# Altium schematic symbol library Molex Micro-Fit.SchLib: 6 symbols
Pins are listed as number, name and electrical type; pins without a type are passive.

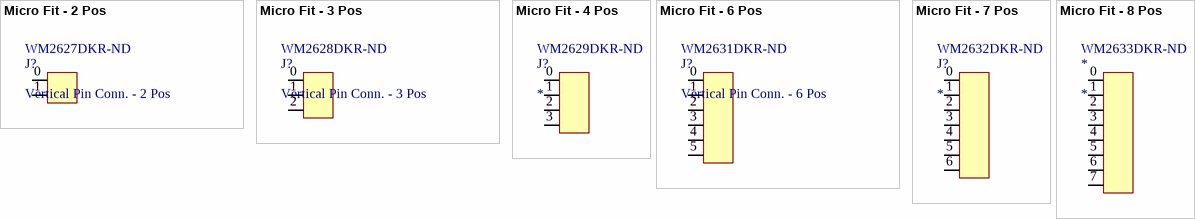
[diagram p0: symbols Micro Fit - 2 Pos to Micro Fit - 8 Pos]

## Micro Fit - 2 Pos
designator J?, comment Vertical Pin Conn. - 2 Pos  Supplier Part Number 1: WM2627DKR-ND
Supplier 1: Digi-Key
footprint 2 POS RECT CONNECTOR HOUSING
pins: 0, 1 2

## Micro Fit - 3 Pos
designator J?, comment Vertical Pin Conn. - 3 Pos  Supplier Part Number 1: WM2628DKR-ND
Supplier 1: Digi-Key
footprint 3 POS RECT CONNECTOR HOUSING
pins: 0 1, 1 2, 2 3

## Micro Fit - 4 Pos
designator J?  Supplier Part Number 1: WM2629DKR-ND
Supplier 1: Digi-Key
footprint 4 POS RECT CONNECTOR HOUSING
pins: 0 1, 1 2, 2 3, 3

## Micro Fit - 6 Pos
designator J?, comment Vertical Pin Conn. - 6 Pos  Supplier Part Number 1: WM2631DKR-ND
Supplier 1: Digi-Key
footprint 6 POS RECT CONNECTOR HOUSING
pins: 0 1, 1 2, 2 3, 3 4, 4 5, 5 6

## Micro Fit - 7 Pos
designator J?  Supplier Part Number 1: WM2632DKR-ND
Supplier 1: Digi-Key
footprint 7 POS RECT CONNECTOR HOUSING
pins: 0 1, 1 2, 2 3, 3 4, 4 5, 5 6, 6 7

## Micro Fit - 8 Pos
designator *  Supplier Part Number 1: WM2633DKR-ND
Supplier 1: Digi-Key
footprint 8 POS RECT CONNECTOR HOUSING
pins: 0 1, 1 2, 2 3, 3 4, 4 5, 5 6, 6 7, 7